# Altium schematic symbol library SCH - LOGO - ESD LOGO.Schlib: 1 symbol
Pins are listed as number, name and electrical type; pins without a type are passive.

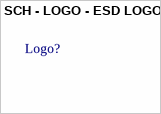
[diagram p0: symbol SCH - LOGO - ESD LOGO]

## SCH - LOGO - ESD LOGO
designator Logo?
footprint ESD_Logo